# Altium schematic symbol library mojosv2.SchLib: 1 symbol
Pins are listed as number, name and electrical type; pins without a type are passive.

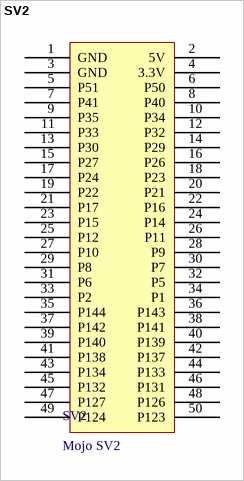
[diagram p0: symbol SV2]

## SV2
designator SV2, comment Mojo SV2
footprint PH25X2
pins: 1 GND, 2 5V, 3 GND, 4 3.3V, 5 P51, 6 P50, 7 P41, 8 P40, 9 P35, 10 P34, 11 P33, 12 P32, 13 P30, 14 P29, 15 P27, 16 P26, 17 P24, 18 P23, 19 P22, 20 P21, 21 P17, 22 P16, 23 P15, 24 P14, 25 P12, 26 P11, 27 P10, 28 P9, 29 P8, 30 P7, 31 P6, 32 P5, 33 P2, 34 P1, 35 P144, 36 P143, 37 P142, 38 P141, 39 P140, 40 P139, 41 P138, 42 P137, 43 P134, 44 P133, 45 P132, 46 P131, 47 P127, 48 P126, 49 P124, 50 P123